# Altium footprint library 4.35-HT-3.96mm连接器.PcbLib: 56 footprints (part 4 of 4)
Each footprint in its own frame and in the unit in brackets; x right, y up, seen from the top. Pads: shape width x height; smd on the part's side, far side on the other; paste and mask are expansions set on the pad; w line width, h text height; cw(c..) or ccw(c..) is an arc to the next point about the centre after c.
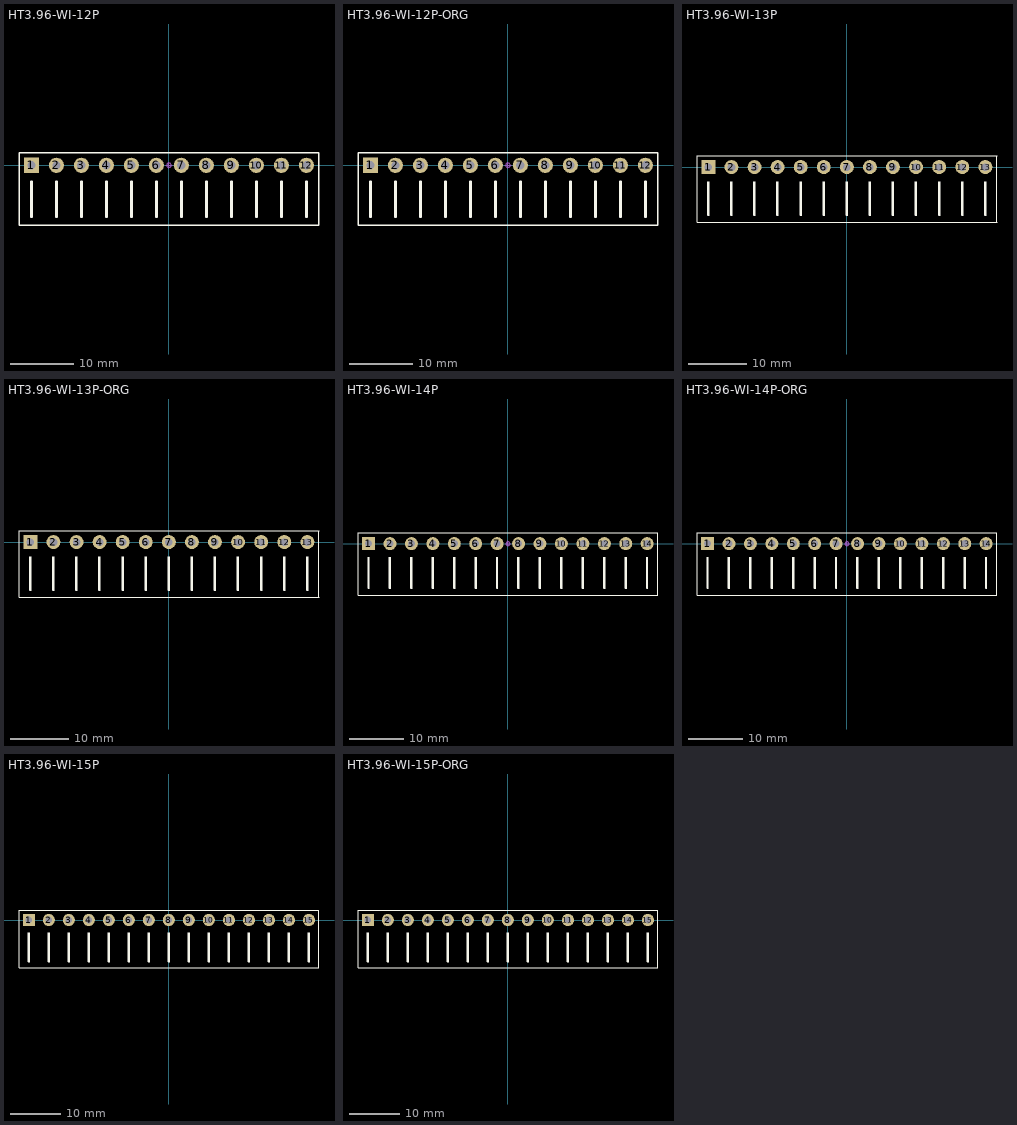
[diagram p3: the footprints below, top view; thin cyan lines are the x and y axes]

## HT3.96-WI-12P [mm] "HT3.96卧插端子 淘宝ID:黄晶宝石   店铺网址:https://shop463601444.taobao.com"
pads (12):
  rect 2.4x2.4 hole 1.3: 1(-21.8,0)
  round 2.4 hole 1.3: 2(-17.84,0) 3(-13.88,0) 4(-9.92,0) 5(-5.96,0) 6(-2,0) 7(1.96,0) 8(5.92,0) 9(9.88,0) 10(13.84,0) 11(17.82,0) 12(21.78,0)
Top Overlay:
  lines w0.203: -21.78,-8.255 -21.78,-2.54 ; -17.82,-8.255 -17.82,-2.54 ; -13.86,-8.255 -13.86,-2.54 ; -9.9,-8.255 -9.9,-2.54 ; -5.94,-8.255 -5.94,-2.54 ; -1.98,-8.255 -1.98,-2.54 ; 1.98,-8.255 1.98,-2.54 ; 5.94,-8.255 5.94,-2.54 ; 9.9,-8.255 9.9,-2.54 ; 13.86,-8.255 13.86,-2.54 ; 15.84,-9.5 11.88,-9.5 7.92,-9.5 3.96,-9.5 0,-9.5 -3.96,-9.5 -7.92,-9.5 -11.88,-9.5 -15.84,-9.5 -19.8,-9.5 -23.76,-9.5 -23.76,1.98 -19.8,1.98 -15.84,1.98 -11.88,1.98 -7.92,1.98 -3.96,1.98 0,1.98 3.96,1.98 7.92,1.98 11.88,1.98 15.84,1.98 ; 15.86,-9.5 19.82,-9.5 23.78,-9.5 23.78,1.98 19.82,1.98 15.86,1.98 ; 17.84,-8.255 17.84,-2.54 ; 21.8,-8.255 21.8,-2.54 ; -21.907,-8.255 -21.907,-2.54 -21.653,-2.54 -21.653,-8.255 -21.907,-8.255 ; -17.947,-8.255 -17.693,-8.255 -17.693,-2.54 -17.947,-2.54 -17.947,-8.255 ; -13.987,-8.255 -13.733,-8.255 -13.733,-2.54 -13.987,-2.54 -13.987,-8.255 ; -10.027,-8.255 -9.773,-8.255 -9.773,-2.54 -10.027,-2.54 -10.027,-8.255 ; -6.067,-8.255 -5.813,-8.255 -5.813,-2.54 -6.067,-2.54 -6.067,-8.255 ; -2.107,-8.255 -1.853,-8.255 -1.853,-2.54 -2.107,-2.54 -2.107,-8.255 ; 1.853,-8.255 2.107,-8.255 2.107,-2.54 1.853,-2.54 1.853,-8.255 ; 5.813,-8.255 6.067,-8.255 6.067,-2.54 5.813,-2.54 5.813,-8.255 ; 9.773,-8.255 10.027,-8.255 10.027,-2.54 9.773,-2.54 9.773,-8.255 ; 13.733,-8.255 13.733,-2.54 13.987,-2.54 13.987,-8.255 13.733,-8.255 ; 17.713,-8.255 17.967,-8.255 17.967,-2.54 17.713,-2.54 17.713,-8.255 ; 21.673,-8.255 21.673,-2.54 21.927,-2.54 21.927,-8.255 21.673,-8.255
Mechanical 15:
  circle w0.05: c0,0 r0.35
  lines w0.05: -0.5,0 0.5,0 ; 0,-0.5 0,0.5
3D body: height 7.45, standoff -3.2, extent 19.8,-9.5 23.8,0.5
3D body: height 7.45, standoff -3.2, extent -23.78,-9.5 -19.78,0.5
3D body: height 7.45, standoff -3.2, extent -19.82,-9.5 -15.82,0.5
3D body: height 7.45, standoff -3.2, extent 11.86,-9.5 15.86,0.5
3D body: height 7.45, standoff -3.2, extent -15.86,-9.5 -11.86,0.5
3D body: height 7.45, standoff -3.2, extent -11.9,-9.5 -7.9,0.5
3D body: height 7.45, standoff -3.2, extent -7.94,-9.5 -3.94,0.5
3D body: height 7.45, standoff -3.2, extent -3.98,-9.5 0.02,0.5
3D body: height 7.45, standoff -3.2, extent -0.02,-9.5 3.98,0.5
3D body: height 7.45, standoff -3.2, extent 3.94,-9.5 7.94,0.5
3D body: height 7.45, standoff -3.2, extent 7.9,-9.5 11.9,0.5
3D body: height 7.45, standoff -3.2, extent 15.84,-9.5 19.84,0.5

## HT3.96-WI-12P-ORG [mm] "HT3.96卧插端子"
pads (12):
  rect 2.4x2.4 hole 1.3: 1(-21.8,0)
  round 2.4 hole 1.3: 2(-17.84,0) 3(-13.88,0) 4(-9.92,0) 5(-5.96,0) 6(-2,0) 7(1.96,0) 8(5.92,0) 9(9.88,0) 10(13.84,0) 11(17.82,0) 12(21.78,0)
Top Overlay:
  lines w0.203: -21.78,-8.255 -21.78,-2.54 ; -17.82,-8.255 -17.82,-2.54 ; -13.86,-8.255 -13.86,-2.54 ; -9.9,-8.255 -9.9,-2.54 ; -5.94,-8.255 -5.94,-2.54 ; -1.98,-8.255 -1.98,-2.54 ; 1.98,-8.255 1.98,-2.54 ; 5.94,-8.255 5.94,-2.54 ; 9.9,-8.255 9.9,-2.54 ; 13.86,-8.255 13.86,-2.54 ; 15.84,-9.5 11.88,-9.5 7.92,-9.5 3.96,-9.5 0,-9.5 -3.96,-9.5 -7.92,-9.5 -11.88,-9.5 -15.84,-9.5 -19.8,-9.5 -23.76,-9.5 -23.76,1.98 -19.8,1.98 -15.84,1.98 -11.88,1.98 -7.92,1.98 -3.96,1.98 0,1.98 3.96,1.98 7.92,1.98 11.88,1.98 15.84,1.98 ; 15.86,-9.5 19.82,-9.5 23.78,-9.5 23.78,1.98 19.82,1.98 15.86,1.98 ; 17.84,-8.255 17.84,-2.54 ; 21.8,-8.255 21.8,-2.54 ; -21.907,-8.255 -21.653,-8.255 -21.653,-2.54 -21.907,-2.54 -21.907,-8.255 ; -17.947,-8.255 -17.947,-2.54 -17.693,-2.54 -17.693,-8.255 -17.947,-8.255 ; -13.987,-8.255 -13.987,-2.54 -13.733,-2.54 -13.733,-8.255 -13.987,-8.255 ; -10.027,-8.255 -10.027,-2.54 -9.773,-2.54 -9.773,-8.255 -10.027,-8.255 ; -6.067,-8.255 -6.067,-2.54 -5.813,-2.54 -5.813,-8.255 -6.067,-8.255 ; -2.107,-8.255 -2.107,-2.54 -1.853,-2.54 -1.853,-8.255 -2.107,-8.255 ; 1.853,-8.255 1.853,-2.54 2.107,-2.54 2.107,-8.255 1.853,-8.255 ; 5.813,-8.255 5.813,-2.54 6.067,-2.54 6.067,-8.255 5.813,-8.255 ; 9.773,-8.255 9.773,-2.54 10.027,-2.54 10.027,-8.255 9.773,-8.255 ; 13.733,-8.255 13.987,-8.255 13.987,-2.54 13.733,-2.54 13.733,-8.255 ; 17.713,-8.255 17.713,-2.54 17.967,-2.54 17.967,-8.255 17.713,-8.255 ; 21.673,-8.255 21.927,-8.255 21.927,-2.54 21.673,-2.54 21.673,-8.255
Mechanical 15:
  circle w0.05: c0,0 r0.35
  lines w0.05: -0.5,0 0.5,0 ; 0,-0.5 0,0.5
3D body: height 7.45, standoff -3.2, extent 19.78,-9.5 23.78,0.5
3D body: height 7.45, standoff -3.2, extent 15.8,-9.5 19.8,0.5
3D body: height 7.45, standoff -3.2, extent 11.84,-9.5 15.84,0.5
3D body: height 7.45, standoff -3.2, extent 7.88,-9.5 11.88,0.5
3D body: height 7.45, standoff -3.2, extent 3.92,-9.5 7.92,0.5
3D body: height 7.45, standoff -3.2, extent -0.04,-9.5 3.96,0.5
3D body: height 7.45, standoff -3.2, extent -4,-9.5 0,0.5
3D body: height 7.45, standoff -3.2, extent -7.96,-9.5 -3.96,0.5
3D body: height 7.45, standoff -3.2, extent -11.92,-9.5 -7.92,0.5
3D body: height 7.45, standoff -3.2, extent -15.88,-9.5 -11.88,0.5
3D body: height 7.45, standoff -3.2, extent -19.84,-9.5 -15.84,0.5
3D body: height 7.45, standoff -3.2, extent -23.8,-9.5 -19.8,0.5

## HT3.96-WI-13P [mm] "HT3.96卧插端子"
pads (13):
  rect 2.4x2.4 hole 1.3: 1(-23.76,0)
  round 2.4 hole 1.3: 2(-19.8,0) 3(-15.84,0) 4(-11.88,0) 5(-7.92,0) 6(-3.96,0) 7(0,0) 8(3.96,0) 9(7.92,0) 10(11.88,0) 11(15.86,0) 12(19.82,0) 13(23.78,0)
Top Overlay:
  lines w0.203: -23.74,-8.255 -23.74,-2.54 ; -19.78,-8.255 -19.78,-2.54 ; -15.82,-8.255 -15.82,-2.54 ; -11.86,-8.255 -11.86,-2.54 ; -7.9,-8.255 -7.9,-2.54 ; -3.94,-8.255 -3.94,-2.54 ; 0.02,-8.255 0.02,-2.54 ; 3.98,-8.255 3.98,-2.54 ; 7.94,-8.255 7.94,-2.54 ; 11.9,-8.255 11.9,-2.54 ; 13.88,-9.5 9.92,-9.5 5.96,-9.5 2,-9.5 -1.96,-9.5 -5.92,-9.5 -9.88,-9.5 -13.84,-9.5 -17.8,-9.5 -21.76,-9.5 -25.72,-9.5 -25.72,1.98 -21.76,1.98 -17.8,1.98 -13.84,1.98 -9.88,1.98 -5.92,1.98 -1.96,1.98 2,1.98 5.96,1.98 9.92,1.98 13.88,1.98 ; 13.9,-9.5 17.86,-9.5 21.82,-9.5 25.78,-9.5 25.78,1.98 21.82,1.98 17.86,1.98 13.9,1.98 ; 15.88,-8.255 15.88,-2.54 ; 19.84,-8.255 19.84,-2.54 ; 23.8,-8.255 23.8,-2.54 ; -23.867,-8.255 -23.867,-2.54 -23.613,-2.54 -23.613,-8.255 -23.867,-8.255 ; -19.907,-8.255 -19.653,-8.255 -19.653,-2.54 -19.907,-2.54 -19.907,-8.255 ; -15.947,-8.255 -15.693,-8.255 -15.693,-2.54 -15.947,-2.54 -15.947,-8.255 ; -11.987,-8.255 -11.733,-8.255 -11.733,-2.54 -11.987,-2.54 -11.987,-8.255 ; -8.027,-8.255 -7.773,-8.255 -7.773,-2.54 -8.027,-2.54 -8.027,-8.255 ; -4.067,-8.255 -3.813,-8.255 -3.813,-2.54 -4.067,-2.54 -4.067,-8.255 ; -0.107,-8.255 0.147,-8.255 0.147,-2.54 -0.107,-2.54 -0.107,-8.255 ; 3.853,-8.255 4.107,-8.255 4.107,-2.54 3.853,-2.54 3.853,-8.255 ; 7.813,-8.255 8.067,-8.255 8.067,-2.54 7.813,-2.54 7.813,-8.255 ; 11.773,-8.255 11.773,-2.54 12.027,-2.54 12.027,-8.255 11.773,-8.255 ; 15.753,-8.255 16.007,-8.255 16.007,-2.54 15.753,-2.54 15.753,-8.255 ; 19.713,-8.255 19.713,-2.54 19.967,-2.54 19.967,-8.255 19.713,-8.255 ; 23.673,-8.255 23.927,-8.255 23.927,-2.54 23.673,-2.54 23.673,-8.255
Mechanical 15:
  circle w0.05: c0.02,0 r0.35
  lines w0.05: -0.48,0 0.52,0 ; 0.02,-0.5 0.02,0.5
3D body: height 7.45, standoff -3.2, extent 17.84,-9.5 21.84,0.5
3D body: height 7.45, standoff -3.2, extent -25.74,-9.5 -21.74,0.5
3D body: height 7.45, standoff -3.2, extent -21.78,-9.5 -17.78,0.5
3D body: height 7.45, standoff -3.2, extent 9.9,-9.5 13.9,0.5
3D body: height 7.45, standoff -3.2, extent -17.82,-9.5 -13.82,0.5
3D body: height 7.45, standoff -3.2, extent -13.86,-9.5 -9.86,0.5
3D body: height 7.45, standoff -3.2, extent -9.9,-9.5 -5.9,0.5
3D body: height 7.45, standoff -3.2, extent -5.94,-9.5 -1.94,0.5
3D body: height 7.45, standoff -3.2, extent -1.98,-9.5 2.02,0.5
3D body: height 7.45, standoff -3.2, extent 1.98,-9.5 5.98,0.5
3D body: height 7.45, standoff -3.2, extent 5.94,-9.5 9.94,0.5
3D body: height 7.45, standoff -3.2, extent 13.88,-9.5 17.88,0.5
3D body: height 7.45, standoff -3.2, extent 21.8,-9.5 25.8,0.5

## HT3.96-WI-13P-ORG [mm] "HT3.96卧插端子"
pads (13):
  rect 2.4x2.4 hole 1.3: 1(-23.76,0)
  round 2.4 hole 1.3: 2(-19.8,0) 3(-15.84,0) 4(-11.88,0) 5(-7.92,0) 6(-3.96,0) 7(0,0) 8(3.96,0) 9(7.92,0) 10(11.88,0) 11(15.86,0) 12(19.82,0) 13(23.78,0)
Top Overlay:
  lines w0.203: -23.74,-8.255 -23.74,-2.54 ; -19.78,-8.255 -19.78,-2.54 ; -15.82,-8.255 -15.82,-2.54 ; -11.86,-8.255 -11.86,-2.54 ; -7.9,-8.255 -7.9,-2.54 ; -3.94,-8.255 -3.94,-2.54 ; 0.02,-8.255 0.02,-2.54 ; 3.98,-8.255 3.98,-2.54 ; 7.94,-8.255 7.94,-2.54 ; 11.9,-8.255 11.9,-2.54 ; 13.88,-9.5 9.92,-9.5 5.96,-9.5 2,-9.5 -1.96,-9.5 -5.92,-9.5 -9.88,-9.5 -13.84,-9.5 -17.8,-9.5 -21.76,-9.5 -25.72,-9.5 -25.72,1.98 -21.76,1.98 -17.8,1.98 -13.84,1.98 -9.88,1.98 -5.92,1.98 -1.96,1.98 2,1.98 5.96,1.98 9.92,1.98 13.88,1.98 ; 13.9,-9.5 17.86,-9.5 21.82,-9.5 25.78,-9.5 25.78,1.98 21.82,1.98 17.86,1.98 13.9,1.98 ; 15.88,-8.255 15.88,-2.54 ; 19.84,-8.255 19.84,-2.54 ; 23.8,-8.255 23.8,-2.54 ; -23.867,-8.255 -23.613,-8.255 -23.613,-2.54 -23.867,-2.54 -23.867,-8.255 ; -19.907,-8.255 -19.907,-2.54 -19.653,-2.54 -19.653,-8.255 -19.907,-8.255 ; -15.947,-8.255 -15.947,-2.54 -15.693,-2.54 -15.693,-8.255 -15.947,-8.255 ; -11.987,-8.255 -11.987,-2.54 -11.733,-2.54 -11.733,-8.255 -11.987,-8.255 ; -8.027,-8.255 -8.027,-2.54 -7.773,-2.54 -7.773,-8.255 -8.027,-8.255 ; -4.067,-8.255 -4.067,-2.54 -3.813,-2.54 -3.813,-8.255 -4.067,-8.255 ; -0.107,-8.255 -0.107,-2.54 0.147,-2.54 0.147,-8.255 -0.107,-8.255 ; 3.853,-8.255 3.853,-2.54 4.107,-2.54 4.107,-8.255 3.853,-8.255 ; 7.813,-8.255 7.813,-2.54 8.067,-2.54 8.067,-8.255 7.813,-8.255 ; 11.773,-8.255 12.027,-8.255 12.027,-2.54 11.773,-2.54 11.773,-8.255 ; 15.753,-8.255 15.753,-2.54 16.007,-2.54 16.007,-8.255 15.753,-8.255 ; 19.713,-8.255 19.967,-8.255 19.967,-2.54 19.713,-2.54 19.713,-8.255 ; 23.673,-8.255 23.673,-2.54 23.927,-2.54 23.927,-8.255 23.673,-8.255
Mechanical 15:
  circle w0.05: c0.02,0 r0.35
  lines w0.05: -0.48,0 0.52,0 ; 0.02,-0.5 0.02,0.5
3D body: height 7.45, standoff -3.2, extent 21.74,-9.5 25.74,0.5
3D body: height 7.45, standoff -3.2, extent 17.8,-9.5 21.8,0.5
3D body: height 7.45, standoff -3.2, extent 13.82,-9.5 17.82,0.5
3D body: height 7.45, standoff -3.2, extent 9.86,-9.5 13.86,0.5
3D body: height 7.45, standoff -3.2, extent 5.9,-9.5 9.9,0.5
3D body: height 7.45, standoff -3.2, extent 1.94,-9.5 5.94,0.5
3D body: height 7.45, standoff -3.2, extent -2.02,-9.5 1.98,0.5
3D body: height 7.45, standoff -3.2, extent -5.98,-9.5 -1.98,0.5
3D body: height 7.45, standoff -3.2, extent -9.94,-9.5 -5.94,0.5
3D body: height 7.45, standoff -3.2, extent -13.9,-9.5 -9.9,0.5
3D body: height 7.45, standoff -3.2, extent -17.86,-9.5 -13.86,0.5
3D body: height 7.45, standoff -3.2, extent -21.82,-9.5 -17.82,0.5
3D body: height 7.45, standoff -3.2, extent -25.78,-9.5 -21.78,0.5

## HT3.96-WI-14P [mm] "HT3.96卧插端子 淘宝ID:黄晶宝石   店铺网址:https://shop463601444.taobao.com"
pads (14):
  rect 2.4x2.4 hole 1.3: 1(-25.76,0)
  round 2.4 hole 1.3: 2(-21.8,0) 3(-17.84,0) 4(-13.88,0) 5(-9.92,0) 6(-5.96,0) 7(-2,0) 8(1.96,0) 9(5.92,0) 10(9.88,0) 11(13.86,0) 12(17.82,0) 13(21.78,0) 14(25.74,0)
Top Overlay:
  lines w0.203: -25.74,-8.255 -25.74,-2.54 ; -21.78,-8.255 -21.78,-2.54 ; -17.82,-8.255 -17.82,-2.54 ; -13.86,-8.255 -13.86,-2.54 ; -9.9,-8.255 -9.9,-2.54 ; -5.94,-8.255 -5.94,-2.54 ; -1.98,-8.255 -1.98,-2.54 ; 1.98,-8.255 1.98,-2.54 ; 5.94,-8.255 5.94,-2.54 ; 9.9,-8.255 9.9,-2.54 ; 11.88,-9.5 7.92,-9.5 3.96,-9.5 0,-9.5 -3.96,-9.5 -7.92,-9.5 -11.88,-9.5 -15.84,-9.5 -19.8,-9.5 -23.76,-9.5 -27.72,-9.5 -27.72,1.98 -23.76,1.98 -19.8,1.98 -15.84,1.98 -11.88,1.98 -7.92,1.98 -3.96,1.98 0,1.98 3.96,1.98 7.92,1.98 11.88,1.98 ; 11.9,-9.5 15.86,-9.5 19.82,-9.5 23.78,-9.5 27.74,-9.5 27.74,1.98 23.78,1.98 19.82,1.98 15.86,1.98 11.9,1.98 ; 13.88,-8.255 13.88,-2.54 ; 17.84,-8.255 17.84,-2.54 ; 21.8,-8.255 21.8,-2.54 ; 25.76,-8.255 25.76,-2.54 ; -25.867,-8.255 -25.867,-2.54 -25.613,-2.54 -25.613,-8.255 -25.867,-8.255 ; -21.907,-8.255 -21.653,-8.255 -21.653,-2.54 -21.907,-2.54 -21.907,-8.255 ; -17.947,-8.255 -17.693,-8.255 -17.693,-2.54 -17.947,-2.54 -17.947,-8.255 ; -13.987,-8.255 -13.733,-8.255 -13.733,-2.54 -13.987,-2.54 -13.987,-8.255 ; -10.027,-8.255 -9.773,-8.255 -9.773,-2.54 -10.027,-2.54 -10.027,-8.255 ; -6.067,-8.255 -5.813,-8.255 -5.813,-2.54 -6.067,-2.54 -6.067,-8.255 ; -2.107,-8.255 -1.853,-8.255 -1.853,-2.54 -2.107,-2.54 -2.107,-8.255 ; 1.853,-8.255 2.107,-8.255 2.107,-2.54 1.853,-2.54 1.853,-8.255 ; 5.813,-8.255 6.067,-8.255 6.067,-2.54 5.813,-2.54 5.813,-8.255 ; 9.773,-8.255 9.773,-2.54 10.027,-2.54 10.027,-8.255 9.773,-8.255 ; 13.753,-8.255 14.007,-8.255 14.007,-2.54 13.753,-2.54 13.753,-8.255 ; 17.713,-8.255 17.713,-2.54 17.967,-2.54 17.967,-8.255 17.713,-8.255 ; 21.673,-8.255 21.927,-8.255 21.927,-2.54 21.673,-2.54 21.673,-8.255 ; 25.633,-8.255 25.633,-2.54 25.887,-2.54 25.887,-8.255 25.633,-8.255
Mechanical 15:
  circle w0.05: c0,0 r0.35
  lines w0.05: -0.5,0 0.5,0 ; 0,-0.5 0,0.5
3D body: height 7.45, standoff -3.2, extent 23.76,-9.5 27.76,0.5
3D body: height 7.45, standoff -3.2, extent 15.84,-9.5 19.84,0.5
3D body: height 7.45, standoff -3.2, extent -27.74,-9.5 -23.74,0.5
3D body: height 7.45, standoff -3.2, extent -23.78,-9.5 -19.78,0.5
3D body: height 7.45, standoff -3.2, extent 7.9,-9.5 11.9,0.5
3D body: height 7.45, standoff -3.2, extent -19.82,-9.5 -15.82,0.5
3D body: height 7.45, standoff -3.2, extent -15.86,-9.5 -11.86,0.5
3D body: height 7.45, standoff -3.2, extent -11.9,-9.5 -7.9,0.5
3D body: height 7.45, standoff -3.2, extent -7.94,-9.5 -3.94,0.5
3D body: height 7.45, standoff -3.2, extent -3.98,-9.5 0.02,0.5
3D body: height 7.45, standoff -3.2, extent -0.02,-9.5 3.98,0.5
3D body: height 7.45, standoff -3.2, extent 3.94,-9.5 7.94,0.5
3D body: height 7.45, standoff -3.2, extent 11.88,-9.5 15.88,0.5
3D body: height 7.45, standoff -3.2, extent 19.8,-9.5 23.8,0.5

## HT3.96-WI-14P-ORG [mm] "HT3.96卧插端子 淘宝ID:黄晶宝石   店铺网址:https://shop463601444.taobao.com"
pads (14):
  rect 2.4x2.4 hole 1.3: 1(-25.76,0)
  round 2.4 hole 1.3: 2(-21.8,0) 3(-17.84,0) 4(-13.88,0) 5(-9.92,0) 6(-5.96,0) 7(-2,0) 8(1.96,0) 9(5.92,0) 10(9.88,0) 11(13.86,0) 12(17.82,0) 13(21.78,0) 14(25.74,0)
Top Overlay:
  lines w0.203: -25.74,-8.255 -25.74,-2.54 ; -21.78,-8.255 -21.78,-2.54 ; -17.82,-8.255 -17.82,-2.54 ; -13.86,-8.255 -13.86,-2.54 ; -9.9,-8.255 -9.9,-2.54 ; -5.94,-8.255 -5.94,-2.54 ; -1.98,-8.255 -1.98,-2.54 ; 1.98,-8.255 1.98,-2.54 ; 5.94,-8.255 5.94,-2.54 ; 9.9,-8.255 9.9,-2.54 ; 11.88,-9.5 7.92,-9.5 3.96,-9.5 0,-9.5 -3.96,-9.5 -7.92,-9.5 -11.88,-9.5 -15.84,-9.5 -19.8,-9.5 -23.76,-9.5 -27.72,-9.5 -27.72,1.98 -23.76,1.98 -19.8,1.98 -15.84,1.98 -11.88,1.98 -7.92,1.98 -3.96,1.98 0,1.98 3.96,1.98 7.92,1.98 11.88,1.98 ; 11.9,-9.5 15.86,-9.5 19.82,-9.5 23.78,-9.5 27.74,-9.5 27.74,1.98 23.78,1.98 19.82,1.98 15.86,1.98 11.9,1.98 ; 13.88,-8.255 13.88,-2.54 ; 17.84,-8.255 17.84,-2.54 ; 21.8,-8.255 21.8,-2.54 ; 25.76,-8.255 25.76,-2.54 ; -25.867,-8.255 -25.867,-2.54 -25.613,-2.54 -25.613,-8.255 -25.867,-8.255 ; -21.907,-8.255 -21.653,-8.255 -21.653,-2.54 -21.907,-2.54 -21.907,-8.255 ; -17.947,-8.255 -17.693,-8.255 -17.693,-2.54 -17.947,-2.54 -17.947,-8.255 ; -13.987,-8.255 -13.733,-8.255 -13.733,-2.54 -13.987,-2.54 -13.987,-8.255 ; -10.027,-8.255 -9.773,-8.255 -9.773,-2.54 -10.027,-2.54 -10.027,-8.255 ; -6.067,-8.255 -5.813,-8.255 -5.813,-2.54 -6.067,-2.54 -6.067,-8.255 ; -2.107,-8.255 -1.853,-8.255 -1.853,-2.54 -2.107,-2.54 -2.107,-8.255 ; 1.853,-8.255 2.107,-8.255 2.107,-2.54 1.853,-2.54 1.853,-8.255 ; 5.813,-8.255 6.067,-8.255 6.067,-2.54 5.813,-2.54 5.813,-8.255 ; 9.773,-8.255 9.773,-2.54 10.027,-2.54 10.027,-8.255 9.773,-8.255 ; 13.753,-8.255 14.007,-8.255 14.007,-2.54 13.753,-2.54 13.753,-8.255 ; 17.713,-8.255 17.713,-2.54 17.967,-2.54 17.967,-8.255 17.713,-8.255 ; 21.673,-8.255 21.927,-8.255 21.927,-2.54 21.673,-2.54 21.673,-8.255 ; 25.633,-8.255 25.633,-2.54 25.887,-2.54 25.887,-8.255 25.633,-8.255
Mechanical 15:
  circle w0.05: c0,0 r0.35
  lines w0.05: -0.5,0 0.5,0 ; 0,-0.5 0,0.5
3D body: height 7.45, standoff -3.2, extent -27.76,-9.5 -23.76,0.5
3D body: height 7.45, standoff -3.2, extent -23.8,-9.5 -19.8,0.5
3D body: height 7.45, standoff -3.2, extent -19.84,-9.5 -15.84,0.5
3D body: height 7.45, standoff -3.2, extent -15.88,-9.5 -11.88,0.5
3D body: height 7.45, standoff -3.2, extent -11.92,-9.5 -7.92,0.5
3D body: height 7.45, standoff -3.2, extent -7.96,-9.5 -3.96,0.5
3D body: height 7.45, standoff -3.2, extent -4,-9.5 0,0.5
3D body: height 7.45, standoff -3.2, extent -0.04,-9.5 3.96,0.5
3D body: height 7.45, standoff -3.2, extent 3.92,-9.5 7.92,0.5
3D body: height 7.45, standoff -3.2, extent 7.88,-9.5 11.88,0.5
3D body: height 7.45, standoff -3.2, extent 11.84,-9.5 15.84,0.5
3D body: height 7.45, standoff -3.2, extent 15.82,-9.5 19.82,0.5
3D body: height 7.45, standoff -3.2, extent 19.76,-9.5 23.76,0.5
3D body: height 7.45, standoff -3.2, extent 23.74,-9.5 27.74,0.5

## HT3.96-WI-15P [mm] "HT3.96卧插端子 淘宝ID:黄晶宝石   店铺网址:https://shop463601444.taobao.com"
pads (15):
  rect 2.4x2.4 hole 1.3: 1(-27.72,0)
  round 2.4 hole 1.3: 2(-23.76,0) 3(-19.8,0) 4(-15.84,0) 5(-11.88,0) 6(-7.92,0) 7(-3.96,0) 8(0,0) 9(3.96,0) 10(7.92,0) 11(11.9,0) 12(15.86,0) 13(19.82,0) 14(23.78,0) 15(27.74,0)
Top Overlay:
  lines w0.203: -27.7,-8.255 -27.7,-2.54 ; -23.74,-8.255 -23.74,-2.54 ; -19.78,-8.255 -19.78,-2.54 ; -15.82,-8.255 -15.82,-2.54 ; -11.86,-8.255 -11.86,-2.54 ; -7.9,-8.255 -7.9,-2.54 ; -3.94,-8.255 -3.94,-2.54 ; 0.02,-8.255 0.02,-2.54 ; 3.98,-8.255 3.98,-2.54 ; 7.94,-8.255 7.94,-2.54 ; 9.92,-9.5 5.96,-9.5 2,-9.5 -1.96,-9.5 -5.92,-9.5 -9.88,-9.5 -13.84,-9.5 -17.8,-9.5 -21.76,-9.5 -25.72,-9.5 -29.68,-9.5 -29.68,1.98 -25.72,1.98 -21.76,1.98 -17.8,1.98 -13.84,1.98 -9.88,1.98 -5.92,1.98 -1.96,1.98 2,1.98 5.96,1.98 9.92,1.98 ; 9.94,-9.5 13.9,-9.5 17.86,-9.5 21.82,-9.5 25.78,-9.5 29.74,-9.5 29.74,1.98 25.78,1.98 21.82,1.98 17.86,1.98 13.9,1.98 9.94,1.98 ; 11.92,-8.255 11.92,-2.54 ; 15.88,-8.255 15.88,-2.54 ; 19.84,-8.255 19.84,-2.54 ; 23.8,-8.255 23.8,-2.54 ; 27.76,-8.255 27.76,-2.54 ; -27.827,-8.255 -27.827,-2.54 -27.573,-2.54 -27.573,-8.255 -27.827,-8.255 ; -23.867,-8.255 -23.613,-8.255 -23.613,-2.54 -23.867,-2.54 -23.867,-8.255 ; -19.907,-8.255 -19.653,-8.255 -19.653,-2.54 -19.907,-2.54 -19.907,-8.255 ; -15.947,-8.255 -15.693,-8.255 -15.693,-2.54 -15.947,-2.54 -15.947,-8.255 ; -11.987,-8.255 -11.733,-8.255 -11.733,-2.54 -11.987,-2.54 -11.987,-8.255 ; -8.027,-8.255 -7.773,-8.255 -7.773,-2.54 -8.027,-2.54 -8.027,-8.255 ; -4.067,-8.255 -3.813,-8.255 -3.813,-2.54 -4.067,-2.54 -4.067,-8.255 ; -0.107,-8.255 0.147,-8.255 0.147,-2.54 -0.107,-2.54 -0.107,-8.255 ; 3.853,-8.255 4.107,-8.255 4.107,-2.54 3.853,-2.54 3.853,-8.255 ; 7.813,-8.255 7.813,-2.54 8.067,-2.54 8.067,-8.255 7.813,-8.255 ; 11.793,-8.255 12.047,-8.255 12.047,-2.54 11.793,-2.54 11.793,-8.255 ; 15.753,-8.255 15.753,-2.54 16.007,-2.54 16.007,-8.255 15.753,-8.255 ; 19.713,-8.255 19.967,-8.255 19.967,-2.54 19.713,-2.54 19.713,-8.255 ; 23.673,-8.255 23.673,-2.54 23.927,-2.54 23.927,-8.255 23.673,-8.255 ; 27.633,-8.255 27.887,-8.255 27.887,-2.54 27.633,-2.54 27.633,-8.255
Mechanical 15:
  circle w0.05: c0,0 r0.35
  lines w0.05: -0.5,0 0.5,0 ; 0,-0.5 0,0.5
3D body: height 7.45, standoff -3.2, extent 21.8,-9.5 25.8,0.5
3D body: height 7.45, standoff -3.2, extent 13.88,-9.5 17.88,0.5
3D body: height 7.45, standoff -3.2, extent -29.7,-9.5 -25.7,0.5
3D body: height 7.45, standoff -3.2, extent -25.74,-9.5 -21.74,0.5
3D body: height 7.45, standoff -3.2, extent 5.94,-9.5 9.94,0.5
3D body: height 7.45, standoff -3.2, extent -21.78,-9.5 -17.78,0.5
3D body: height 7.45, standoff -3.2, extent -17.82,-9.5 -13.82,0.5
3D body: height 7.45, standoff -3.2, extent -13.86,-9.5 -9.86,0.5
3D body: height 7.45, standoff -3.2, extent -9.9,-9.5 -5.9,0.5
3D body: height 7.45, standoff -3.2, extent -5.94,-9.5 -1.94,0.5
3D body: height 7.45, standoff -3.2, extent -1.98,-9.5 2.02,0.5
3D body: height 7.45, standoff -3.2, extent 1.98,-9.5 5.98,0.5
3D body: height 7.45, standoff -3.2, extent 9.92,-9.5 13.92,0.5
3D body: height 7.45, standoff -3.2, extent 17.84,-9.5 21.84,0.5
3D body: height 7.45, standoff -3.2, extent 25.76,-9.5 29.76,0.5

## HT3.96-WI-15P-ORG [mm] "HT3.96卧插端子 淘宝ID:黄晶宝石   店铺网址:https://shop463601444.taobao.com"
pads (15):
  rect 2.4x2.4 hole 1.3: 1(-27.72,0)
  round 2.4 hole 1.3: 2(-23.76,0) 3(-19.8,0) 4(-15.84,0) 5(-11.88,0) 6(-7.92,0) 7(-3.96,0) 8(0,0) 9(3.96,0) 10(7.92,0) 11(11.9,0) 12(15.86,0) 13(19.82,0) 14(23.78,0) 15(27.74,0)
Top Overlay:
  lines w0.203: -27.7,-8.255 -27.7,-2.54 ; -23.74,-8.255 -23.74,-2.54 ; -19.78,-8.255 -19.78,-2.54 ; -15.82,-8.255 -15.82,-2.54 ; -11.86,-8.255 -11.86,-2.54 ; -7.9,-8.255 -7.9,-2.54 ; -3.94,-8.255 -3.94,-2.54 ; 0.02,-8.255 0.02,-2.54 ; 3.98,-8.255 3.98,-2.54 ; 7.94,-8.255 7.94,-2.54 ; 9.92,-9.5 5.96,-9.5 2,-9.5 -1.96,-9.5 -5.92,-9.5 -9.88,-9.5 -13.84,-9.5 -17.8,-9.5 -21.76,-9.5 -25.72,-9.5 -29.68,-9.5 -29.68,1.98 -25.72,1.98 -21.76,1.98 -17.8,1.98 -13.84,1.98 -9.88,1.98 -5.92,1.98 -1.96,1.98 2,1.98 5.96,1.98 9.92,1.98 ; 9.94,-9.5 13.9,-9.5 17.86,-9.5 21.82,-9.5 25.78,-9.5 29.74,-9.5 29.74,1.98 25.78,1.98 21.82,1.98 17.86,1.98 13.9,1.98 9.94,1.98 ; 11.92,-8.255 11.92,-2.54 ; 15.88,-8.255 15.88,-2.54 ; 19.84,-8.255 19.84,-2.54 ; 23.8,-8.255 23.8,-2.54 ; 27.76,-8.255 27.76,-2.54 ; -27.827,-8.255 -27.827,-2.54 -27.573,-2.54 -27.573,-8.255 -27.827,-8.255 ; -23.867,-8.255 -23.613,-8.255 -23.613,-2.54 -23.867,-2.54 -23.867,-8.255 ; -19.907,-8.255 -19.653,-8.255 -19.653,-2.54 -19.907,-2.54 -19.907,-8.255 ; -15.947,-8.255 -15.693,-8.255 -15.693,-2.54 -15.947,-2.54 -15.947,-8.255 ; -11.987,-8.255 -11.733,-8.255 -11.733,-2.54 -11.987,-2.54 -11.987,-8.255 ; -8.027,-8.255 -7.773,-8.255 -7.773,-2.54 -8.027,-2.54 -8.027,-8.255 ; -4.067,-8.255 -3.813,-8.255 -3.813,-2.54 -4.067,-2.54 -4.067,-8.255 ; -0.107,-8.255 0.147,-8.255 0.147,-2.54 -0.107,-2.54 -0.107,-8.255 ; 3.853,-8.255 4.107,-8.255 4.107,-2.54 3.853,-2.54 3.853,-8.255 ; 7.813,-8.255 7.813,-2.54 8.067,-2.54 8.067,-8.255 7.813,-8.255 ; 11.793,-8.255 12.047,-8.255 12.047,-2.54 11.793,-2.54 11.793,-8.255 ; 15.753,-8.255 15.753,-2.54 16.007,-2.54 16.007,-8.255 15.753,-8.255 ; 19.713,-8.255 19.967,-8.255 19.967,-2.54 19.713,-2.54 19.713,-8.255 ; 23.673,-8.255 23.673,-2.54 23.927,-2.54 23.927,-8.255 23.673,-8.255 ; 27.633,-8.255 27.887,-8.255 27.887,-2.54 27.633,-2.54 27.633,-8.255
Mechanical 15:
  circle w0.05: c0,0 r0.35
  lines w0.05: -0.5,0 0.5,0 ; 0,-0.5 0,0.5
3D body: height 7.45, standoff -3.2, extent 25.7,-9.5 29.7,0.5
3D body: height 7.45, standoff -3.2, extent 21.76,-9.5 25.76,0.5
3D body: height 7.45, standoff -3.2, extent 17.78,-9.5 21.78,0.5
3D body: height 7.45, standoff -3.2, extent 13.84,-9.5 17.84,0.5
3D body: height 7.45, standoff -3.2, extent 9.86,-9.5 13.86,0.5
3D body: height 7.45, standoff -3.2, extent 5.9,-9.5 9.9,0.5
3D body: height 7.45, standoff -3.2, extent 1.94,-9.5 5.94,0.5
3D body: height 7.45, standoff -3.2, extent -2.02,-9.5 1.98,0.5
3D body: height 7.45, standoff -3.2, extent -5.98,-9.5 -1.98,0.5
3D body: height 7.45, standoff -3.2, extent -9.94,-9.5 -5.94,0.5
3D body: height 7.45, standoff -3.2, extent -13.9,-9.5 -9.9,0.5
3D body: height 7.45, standoff -3.2, extent -17.86,-9.5 -13.86,0.5
3D body: height 7.45, standoff -3.2, extent -21.82,-9.5 -17.82,0.5
3D body: height 7.45, standoff -3.2, extent -25.78,-9.5 -21.78,0.5
3D body: height 7.45, standoff -3.2, extent -29.74,-9.5 -25.74,0.5